# Altium footprint library BEE-DAL_EXP_pcb.PcbLib: 50 footprints (part 2 of 4)
Each footprint in its own frame and in the unit in brackets; x right, y up, seen from the top. Pads: shape width x height; smd on the part's side, far side on the other; paste and mask are expansions set on the pad; w line width, h text height; cw(c..) or ccw(c..) is an arc to the next point about the centre after c.
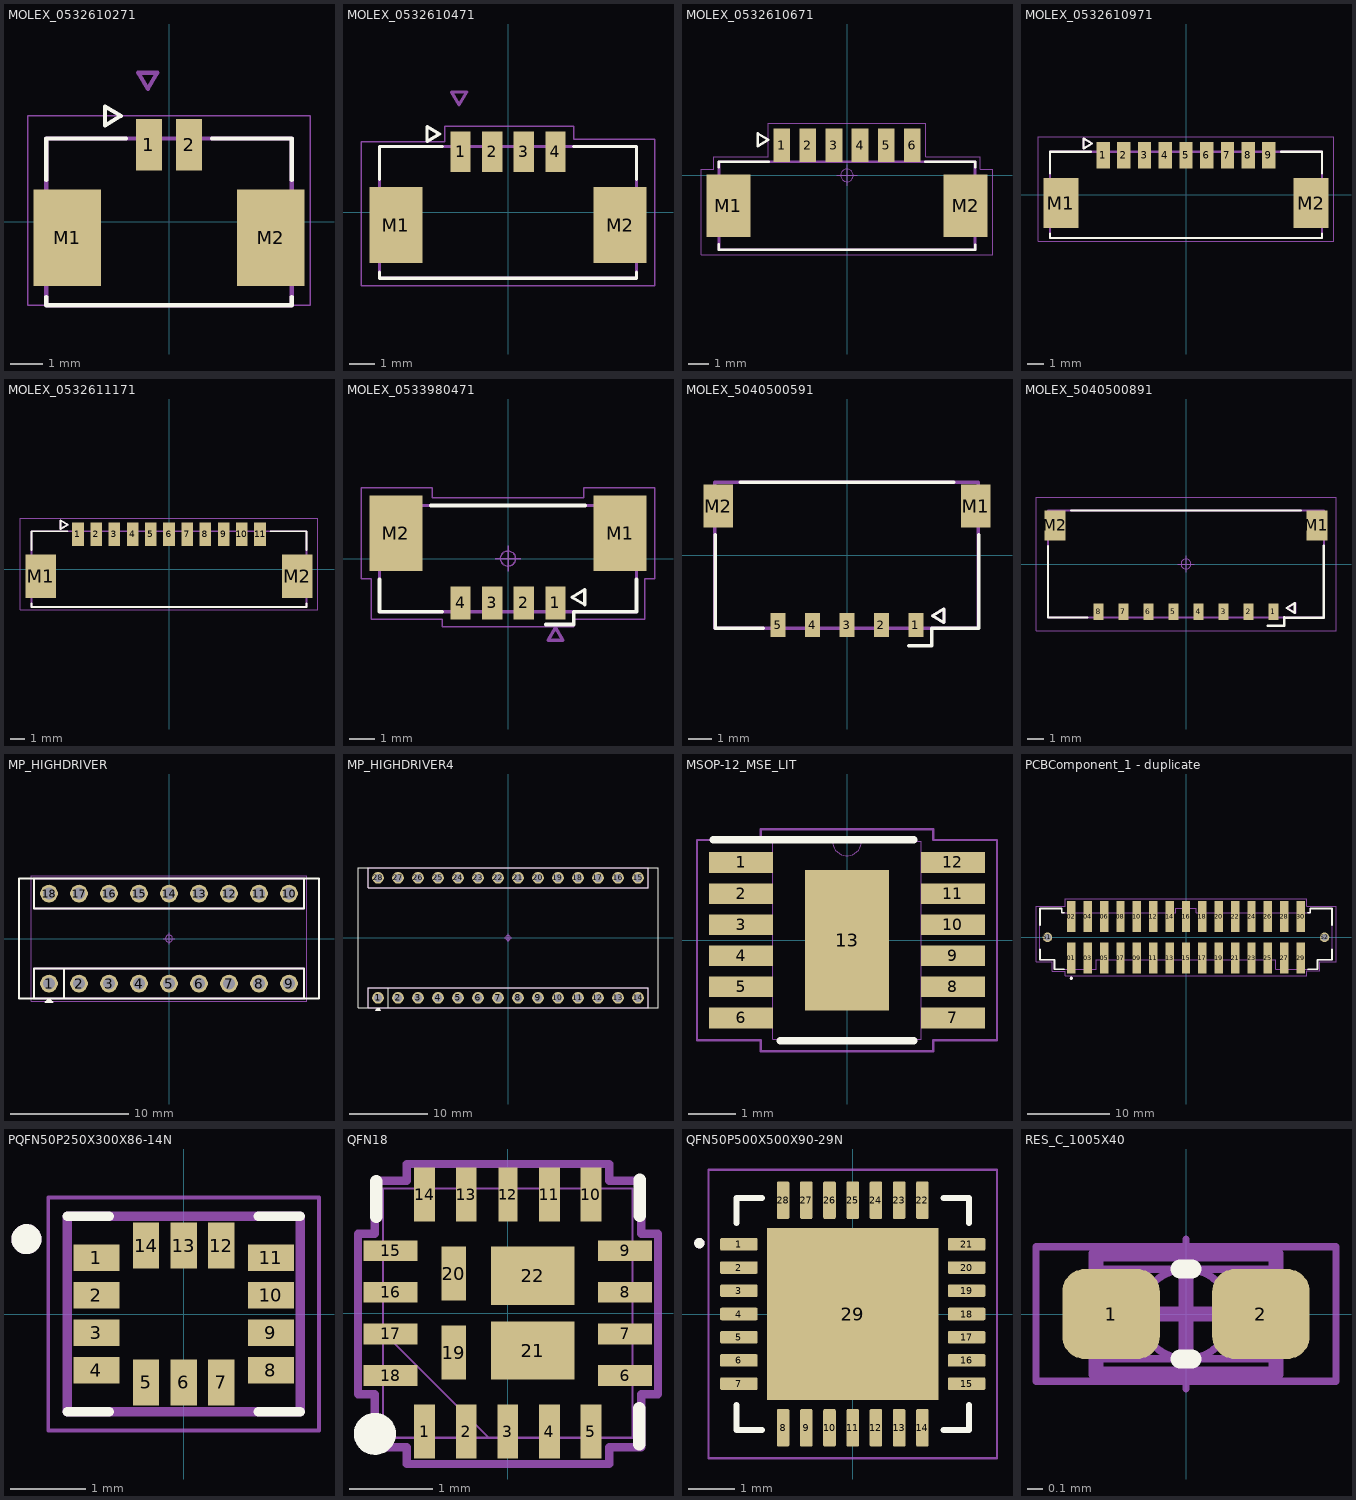
[diagram p1: the footprints below, top view; thin cyan lines are the x and y axes]

## MOLEX_0532610271 [mm]
pads (4):
  rect 0.8x1.6 smd mask+0.076: 1(-0.625,2.4) 2(0.625,2.4)
  rect 2.1x3 smd mask+0.076: M1(-3.175,-0.5) M2(3.175,-0.5)
Top Overlay:
  lines w0.127: -3.825,-2.35 -3.825,-2.6 3.825,-2.6 3.825,-2.35 ; -3.825,1.3 -3.825,2.6 -1.345,2.6 ; 1.345,2.6 3.825,2.6 3.825,1.3 ; -2,3 -2,3.6 -1.5,3.3 -2,3
Mechanical 13:
  lines w0.127: -3.825,-2.6 3.825,-2.6 3.825,2.6 -3.825,2.6 -3.825,-2.6 ; -0.96,4.645 -0.36,4.645 -0.66,4.145 -0.96,4.645
Mechanical 15:
  lines w0.05: -4.4,-2.6 4.4,-2.6 4.4,3.3 -4.4,3.3 -4.4,-2.6
3D body "532610271.STEP": height 3.4, standoff 0, extent -3.825,-2.6 3.825,2.6

## MOLEX_0532610471 [mm]
pads (6):
  rect 0.8x1.6 smd mask+0.076: 1(-1.875,2.4) 2(-0.625,2.4) 3(0.625,2.4) 4(1.875,2.4)
  rect 2.1x3 smd mask+0.076: M1(-4.425,-0.5) M2(4.425,-0.5)
Top Overlay:
  lines w0.127: -5.075,-2.35 -5.075,-2.6 5.075,-2.6 5.075,-2.35 ; -5.075,1.3 -5.075,2.6 -2.595,2.6 ; 2.595,2.6 5.075,2.6 5.075,1.3 ; -3.2,2.8 -3.2,3.4 -2.7,3.1 -3.2,2.8
Top Courtyard:
  lines w0.05: -5.8,-2.9 5.8,-2.9 5.8,-1.4 5.8,1.2 5.8,2.9 2.6,2.9 2.6,3.4 -2.5,3.4 -2.5,2.8 -5.8,2.8 -5.8,-1.7 -5.8,-2.9
Mechanical 13:
  lines w0.127: -5.075,-2.6 5.075,-2.6 5.075,2.6 -5.075,2.6 -5.075,-2.6 ; -2.23,4.752 -1.63,4.752 -1.93,4.252 -2.23,4.752
3D body "532610471.STEP": height 3.4, standoff -0.05, extent -5.075,-2.6 5.075,2.6

## MOLEX_0532610671 [mm]
pads (8):
  rect 0.8x1.6 smd: 1(-3.125,1.45) 2(-1.875,1.45) 3(-0.625,1.45) 4(0.625,1.45) 5(1.875,1.45) 6(3.125,1.45)
  rect 2.1x3 smd: M1(-5.675,-1.45) M2(5.675,-1.45)
Top Overlay:
  lines w0.12: -6.125,-3.3 -6.125,-3.55 6.125,-3.55 6.125,-3.325 ; -6.125,0.4 -6.125,0.65 -3.75,0.65 ; 3.75,0.65 6.125,0.65 6.125,0.4
  lines w0.127: -4.27,1.403 -4.27,2.003 -3.77,1.703 -4.27,1.403
Top Assembly:
  lines w0.127: -6.125,-3.55 6.125,-3.55 6.125,0.65 -6.125,0.65 -6.125,-3.55
  text "'.Designator'" at -3.952,-0.622 h1.5
Top Courtyard:
  lines w0.05: -6.975,-3.8 -6.975,0.3 -6.375,0.3 -6.375,0.9 -3.775,0.9 -3.775,2.5 3.775,2.5 3.775,0.9 6.375,0.9 6.375,0.3 6.975,0.3 6.975,-3.8 -6.975,-3.8
Top Component Center:
  circle w0.05: c0,0 r0.3
  lines w0.05: -0.5,0 0.5,0 ; 0,-0.5 0,0.5
3D body "53261-0671.stp": height 3.4, standoff 0, extent -6.325,-3.429 6.325,1.771

## MOLEX_0532610971 [mm]
pads (11):
  rect 0.8x1.6 smd mask+0.076: 1(-5,2.4) 2(-3.75,2.4) 3(-2.5,2.4) 4(-1.25,2.4) 5(0,2.4) 6(1.25,2.4) 7(2.5,2.4) 8(3.75,2.4) 9(5,2.4)
  rect 2.1x3 smd mask+0.076: M1(-7.55,-0.5) M2(7.55,-0.5)
Top Overlay:
  lines w0.127: -8.2,-2.35 -8.2,-2.6 8.2,-2.6 8.2,-2.35 ; -8.2,1.3 -8.2,2.6 -5.72,2.6 ; 5.72,2.6 8.2,2.6 8.2,1.3 ; -6.175,2.795 -6.175,3.395 -5.675,3.095 -6.175,2.795
Top Courtyard:
  lines w0.05: -8.9,-2.8 8.9,-2.8 8.9,3.5 -8.9,3.5 -8.9,-2.8
Mechanical 13:
  lines w0.127: -8.2,-2.6 8.2,-2.6 8.2,2.6 -8.2,2.6 -8.2,-2.6 ; -6.175,2.795 -6.175,3.395 -5.675,3.095 -6.175,2.795
3D body "532610971.stp": height 3.4, standoff 0, extent -8.2,-2.6 8.2,2.6

## MOLEX_0532611171 [mm]
pads (13):
  rect 0.8x1.6 smd mask+0.076: 1(-6.25,2.4) 2(-5,2.4) 3(-3.75,2.4) 4(-2.5,2.4) 5(-1.25,2.4) 6(0,2.4) 7(1.25,2.4) 8(2.5,2.4) 9(3.75,2.4) 10(5,2.4) 11(6.25,2.4)
  rect 2.1x3 smd mask+0.076: M1(-8.8,-0.5) M2(8.8,-0.5)
Top Overlay:
  lines w0.127: -9.45,-2.35 -9.45,-2.6 9.45,-2.6 9.45,-2.35 ; -9.45,1.3 -9.45,2.6 -6.97,2.6 ; 6.97,2.6 9.45,2.6 9.45,1.3 ; -7.455,2.752 -6.955,3.052 -7.455,3.352 -7.455,2.752
Top Courtyard:
  lines w0.05: -10.2,-2.8 10.2,-2.8 10.2,3.5 -10.2,3.5 -10.2,-2.8
Mechanical 13:
  lines w0.127: -9.45,-2.6 -9.45,2.6 9.45,2.6 9.45,-2.6 -9.45,-2.6 ; -7.455,2.752 -6.955,3.052 -7.455,3.352 -7.455,2.752
3D body "532611171.stp": height 3.4, standoff 0, extent -9.45,-2.6 9.45,2.6

## MOLEX_0533980471 [mm]
pads (6):
  rect 0.8x1.3 smd mask+0.076: 1(1.875,-1.75) 2(0.625,-1.75) 3(-0.625,-1.75) 4(-1.875,-1.75)
  rect 2.1x3 smd mask+0.076: M1(4.425,1) M2(-4.425,1)
Top Overlay:
  lines w0.127: 2.53,-1.525 3.03,-1.225 3.03,-1.825 2.53,-1.525
  lines w0.15: -5.075,-0.82 -5.075,-2.1 -2.595,-2.1 ; -3.055,2.1 3.055,2.1 ; 1.5,-2.6 2.6,-2.6 2.6,-2.1 ; 2.595,-2.1 5.075,-2.1 5.075,-0.82
Top Assembly:
  lines w0.127: -5.075,-2.1 5.075,-2.1 5.075,2.1 -5.075,2.1 -5.075,-2.1 ; 1.575,-3.23 1.875,-2.73 2.175,-3.23 1.575,-3.23
  text "'.Designator'" at -4.217,-0.663 h1.6
Top Courtyard:
  lines w0.05: -5.8,-0.8 -5.8,2.8 -3.4,2.8 -3,2.8 -3,2.4 3,2.4 3,2.8 5.8,2.8 5.8,-0.8 5.4,-0.8 5.4,-2.4 2.6,-2.4 2.6,-2.7 -2.6,-2.7 -2.6,-2.4 -5.4,-2.4 -5.4,-0.8 -5.8,-0.8
Top Component Center:
  circle w0.05: c0,0 r0.3
  lines w0.05: -0.5,0 0.5,0 ; 0,-0.5 0,0.5
3D body "533980471.STEP": height 4.7, standoff 0, extent -5.075,-2.15 5.075,2.05

## MOLEX_5040500591 [mil]
pads (7):
  rect 26x41 smd paste+0 mask+4.02: 1(118.11,-119.76) 2(59.06,-119.76) 3(0,-119.76) 4(-59.06,-119.76) 5(-118.11,-119.76)
  rect 51x73 smd paste+0 mask+4.02: M1(220.67,84.57) M2(-220.67,84.57)
Top Overlay:
  lines w5: 146.77,-103.65 166.46,-115.46 166.46,-91.84 146.77,-103.65
  lines w5.91: 105.63,-154.69 145,-154.69 145,-125
  lines w6: -226,35 -226,-125 -144,-125 ; -183,125 183,125 ; 145,-125 226,-125 226,35
Top Assembly:
  lines w5: 146.56,-103.5 166.25,-115.31 166.25,-91.69 146.56,-103.5
  lines w6: 225.37,124.65 225.37,-125.31 -144.63,-125.31 -226.63,-125.31 -226.63,125 225.37,125 225.37,124.65 ; 225.37,124.65 225.37,124.65
3D body "504050-0591.stp": height 77.95, standoff -0.79, extent -237.2,-127.56 237.2,125.98

## MOLEX_5040500891 [mm]
pads (10):
  rect 0.6x1 smd mask+0.076: 1(5.25,-2.87) 2(3.75,-2.87) 3(2.25,-2.87) 4(0.75,-2.87) 5(-0.75,-2.87) 6(-2.25,-2.87) 7(-3.75,-2.87) 8(-5.25,-2.87)
  rect 1.25x1.8 smd mask+0.076: M1(7.855,2.32) M2(-7.855,2.32)
Top Overlay:
  lines w0.127: -8.275,1.08 -8.275,-3.22 -5.9,-3.22 ; -6.91,3.22 6.91,3.22 ; 6.028,-2.645 6.528,-2.345 6.528,-2.945 6.028,-2.645
  lines w0.15: 4.9,-3.7 5.9,-3.7 5.9,-3.2 ; 5.9,-3.22 8.275,-3.22 8.275,1.08
Top Assembly:
  text "'.Designator'" at -4.217,-0.663 h1.6
Top Courtyard:
  lines w0.05: -9,-4 9,-4 9,4 -9,4 -9,-4
Top Component Center:
  circle w0.05: c0,0 r0.3
  lines w0.05: -0.5,0 0.5,0 ; 0,-0.5 0,0.5
Mechanical 13:
  lines w0.127: -8.275,-3.22 -8.275,3.22 8.275,3.22 8.275,-3.22 -8.275,-3.22 ; 6.07,-2.65 6.57,-2.95 6.57,-2.35 6.07,-2.65
3D body "5040500891.stp": height 2, standoff 0, extent -8.275,-3.2 8.275,3.24

## MP_HIGHDRIVER [mm]
pads (18):
  round 1.5 hole 1 paste-2539.97 mask+0: 1(-10.16,-3.81) 2(-7.62,-3.81) 3(-5.08,-3.81) 4(-2.54,-3.81) 5(0,-3.81) 6(2.54,-3.81) 7(5.08,-3.81) 8(7.62,-3.81) 9(10.16,-3.81) 10(10.16,3.81) 11(7.62,3.81) 12(5.08,3.81) 13(2.54,3.81) 14(0,3.81) 15(-2.54,3.81) 16(-5.08,3.81) 17(-7.62,3.81) 18(-10.16,3.81)
Top Overlay:
  lines w0.15: -11.43,-5.08 -11.43,-2.54 11.43,-2.54 11.43,-5.08 ; -11.43,5.08 -11.43,2.54 11.43,2.54 11.43,5.08 ; -10.26,-5.28 -10.06,-5.28 ; -10.16,-5.28 -10.16,-5.18 ; -8.89,-5.08 -8.89,-2.54 ; -10.46,-5.38 -9.86,-5.38 -10.16,-5.08 -10.46,-5.38
  lines w0.152: -12.7,-5.08 12.7,-5.08 12.7,5.08 -12.7,5.08 -12.7,-5.08
Top Assembly:
  lines w0.15: -10.26,-5.28 -10.06,-5.28 ; -10.16,-5.28 -10.16,-5.18 ; -11.43,-5.08 -11.43,-2.54 11.43,-2.54 11.43,-5.08 -11.43,-5.08 ; -11.43,2.54 11.43,2.54 11.43,5.08 -11.43,5.08 -11.43,2.54 ; -10.46,-5.38 -10.16,-5.08 -9.86,-5.38 -10.46,-5.38
  text "'.Designator'" at -3.952,-0.622 h1.5
Top Courtyard:
  lines w0.015: -11.659,-5.309 11.659,-5.309 11.659,5.309 -11.659,5.309 -11.659,-5.309
Top Component Center:
  circle w0.05: c0,0 r0.3
  lines w0.05: -0.5,0 0.5,0 ; 0,-0.5 0,0.5
3D body "mp-Highdriver 3D model.STEP": height 7.25, standoff -1.64, extent -12.875,-5.15 12.875,5.2

## MP_HIGHDRIVER4 [mm]
pads (28):
  round 1.5 hole 1 paste-2539.97 mask+0: 1(-16.51,-7.62) 2(-13.97,-7.62) 3(-11.43,-7.62) 4(-8.89,-7.62) 5(-6.35,-7.62) 6(-3.81,-7.62) 7(-1.27,-7.62) 8(1.27,-7.62) 9(3.81,-7.62) 10(6.35,-7.62) 11(8.89,-7.62) 12(11.43,-7.62) 13(13.97,-7.62) 14(16.51,-7.62) 15(16.51,7.62) 16(13.97,7.62) 17(11.43,7.62) 18(8.89,7.62) 19(6.35,7.62) 20(3.81,7.62) 21(1.27,7.62) 22(-1.27,7.62) 23(-3.81,7.62) 24(-6.35,7.62) 25(-8.89,7.62) 26(-11.43,7.62) 27(-13.97,7.62) 28(-16.51,7.62)
Top Overlay:
  lines w0.15: -17.78,-8.89 -17.78,-6.35 17.78,-6.35 17.78,-8.89 ; -17.78,8.89 -17.78,6.35 17.78,6.35 17.78,8.89 ; -16.61,-9.09 -16.41,-9.09 ; -16.51,-9.09 -16.51,-8.99 ; -15.24,-8.89 -15.24,-6.35 ; -19.05,-8.89 -19.05,8.89 19.05,8.89 19.05,-8.89 -19.05,-8.89 ; -16.81,-9.19 -16.51,-8.89 -16.21,-9.19 -16.81,-9.19
Top Assembly:
  lines w0.15: -16.61,-9.09 -16.41,-9.09 ; -16.51,-9.09 -16.51,-8.99 ; -17.78,-8.89 -17.78,-6.35 17.78,-6.35 17.78,-8.89 -17.78,-8.89 ; -17.78,6.35 -17.78,8.89 17.78,8.89 17.78,6.35 -17.78,6.35 ; -16.81,-9.19 -16.21,-9.19 -16.51,-8.89 -16.81,-9.19
  text "'.Designator'" at -3.952,-0.622 h1.5
Top Component Center:
  circle w0.05: c0,0 r0.3
  lines w0.05: -0.5,0 0.5,0 ; 0,-0.5 0,0.5
3D body "mp-Highdriver4 3D model.STEP": height 6.04, standoff -6.16, extent -19.1,-8.925 19.1,8.925

## MSOP-12_MSE_LIT [mil]
pads (13):
  rect 52.5x17 smd paste+0 mask+0: 1(-87.25,64) 2(-87.25,38.4) 3(-87.25,12.8) 4(-87.25,-12.8) 5(-87.25,-38.4) 6(-87.25,-64) 7(87.25,-64) 8(87.25,-38.4) 9(87.25,-12.8) 10(87.25,12.8) 11(87.25,38.4) 12(87.25,64)
  rect 69x116 smd paste-3.94 mask+0: 13(0,0)
Top Overlay:
  lines w6: -110.24,82.68 55.12,82.68 ; -55.12,-82.68 55.12,-82.68
Top Paste:
  region: 30.56,54.06 -30.56,54.06 -30.56,3.94 30.56,3.94
  region: 30.56,-3.94 -30.56,-3.94 -30.56,-54.06 30.56,-54.06
Top Courtyard:
  lines w1.97: -123.5,-82.5 -71,-82.5 -71,-91.5 71,-91.5 71,-82.5 123.5,-82.5 123.5,82.5 71,82.5 71,91.5 -71,91.5 -71,82.5 -123.5,82.5 -123.5,-82.5
Mechanical 13:
  lines w1: -12,81.5 ccw(c0,81.5) 12,81.5 ; -99.5,-71.5 -99.5,-56.5 -61,-56.5 -61,-71.5 -99.5,-71.5 ; -99.5,-45.9 -99.5,-30.9 -61,-30.9 -61,-45.9 -99.5,-45.9 ; -99.5,-20.3 -99.5,-5.3 -61,-5.3 -61,-20.3 -99.5,-20.3 ; -99.5,5.3 -99.5,20.3 -61,20.3 -61,5.3 -99.5,5.3 ; -99.5,30.9 -99.5,45.9 -61,45.9 -61,30.9 -99.5,30.9 ; -99.5,56.5 -99.5,71.5 -61,71.5 -61,56.5 -99.5,56.5 ; -61,-81.5 61,-81.5 61,81.5 -61,81.5 -61,-81.5 ; 61,-71.5 61,-56.5 99.5,-56.5 99.5,-71.5 61,-71.5 ; 61,-45.9 61,-30.9 99.5,-30.9 99.5,-45.9 61,-45.9 ; 61,-20.3 61,-5.3 99.5,-5.3 99.5,-20.3 61,-20.3 ; 61,5.3 61,20.3 99.5,20.3 99.5,5.3 61,5.3 ; 61,30.9 61,45.9 99.5,45.9 99.5,30.9 61,30.9 ; 61,56.5 61,71.5 99.5,71.5 99.5,56.5 61,56.5
  text "*" at -58.5,28.5 h50
  text ".Designator" at -137.5,-25 h50
3D body "MSOP-12_MSE_LIT.step": height 43.11, standoff -2.01, extent -99.49,-81.5 99.49,81.5

## PCBComponent_1 - duplicate [mm]
pads (32):
  rect 1.02x3.8 smd: 01(-14,-2.535) 02(-14,2.535) 03(-12,-2.535) 04(-12,2.535) 05(-10,-2.535) 06(-10,2.535) 07(-8,-2.535) 08(-8,2.535) 09(-6,-2.535) 10(-6,2.535) 11(-4,-2.535) 12(-4,2.535) 13(-2,-2.535) 14(-2,2.535) 15(0,-2.535) 16(0,2.535) 17(2,-2.535) 18(2,2.535) 19(4,-2.535) 20(4,2.535) 21(6,-2.535) 22(6,2.535) 23(8,-2.535) 24(8,2.535) 25(10,-2.535) 26(10,2.535) 27(12,-2.535) 28(12,2.535) 29(14,-2.535) 30(14,2.535)
  round 1.163 hole 0.813: S1(-16.925,0) S2(16.925,0)
Top Overlay:
  circle w0.2: c-14,-5 r0.1
  lines w0.2: -17.835,-1.495 -17.835,-2.74 -16.065,-2.74 -16.065,-3.92 -14.86,-3.92 ; -17.835,1.495 -17.835,3.52 -15.175,3.52 -15.175,3.01 -14.86,3.01 ; 14.86,-3.92 16.065,-3.92 16.065,-2.74 17.835,-2.74 17.835,-1.495 ; 14.86,3.01 15.175,3.01 15.175,3.52 17.835,3.52 17.835,1.495
Top Paste:
  circle w1.145: c-16.925,0 r0.573
  circle w1.145: c16.925,0 r0.573
Mechanical 13:
  circle w0.2: c-14,-5 r0.1
  lines w0.1: -17.835,-2.74 -17.835,3.52 -15.175,3.52 -15.175,3.01 -1.27,3.01 -1.27,3.52 1.27,3.52 1.27,3.01 15.175,3.01 15.175,3.52 17.835,3.52 17.835,-2.74 16.065,-2.74 16.065,-3.92 10.985,-3.92 10.985,-2.74 -10.985,-2.74 -10.985,-3.92 -16.065,-3.92 -16.065,-2.74 -17.835,-2.74
Mechanical 15:
  lines w0.05: -18.32,-2.99 -16.315,-2.99 -16.315,-4.17 -14.76,-4.17 -14.76,-4.685 14.76,-4.685 14.76,-4.1 16.315,-4.1 16.315,-2.99 18.32,-2.99 18.32,3.77 14.76,3.77 14.76,4.685 -14.76,4.685 -14.76,3.77 -18.32,3.77 -18.32,-2.99
3D body "T2M-115-01-L-D-SM-WT.stp": height 6.58, standoff -1.62, extent -17.837,-4.314 17.837,4.314

## PQFN50P250X300X86-14N [mm]
pads (14):
  rect 0.61x0.35 smd mask+0: 1(-1.16,0.75) 2(-1.16,0.25) 3(-1.16,-0.25) 4(-1.16,-0.75) 8(1.16,-0.75) 9(1.16,-0.25) 10(1.16,0.25) 11(1.16,0.75)
  rect 0.35x0.61 smd mask+0: 5(-0.5,-0.91) 6(0,-0.91) 7(0.5,-0.91) 12(0.5,0.91) 13(0,0.91) 14(-0.5,0.91)
Top Overlay:
  circle w0.2: c-2.09,0.995 r0.1
  lines w0.127: -1.55,-1.3 -0.99,-1.3 ; -1.55,1.3 -0.99,1.3 ; 0.99,-1.3 1.55,-1.3 ; 0.99,1.3 1.55,1.3
Top Assembly:
  lines w0.127: -1.55,-1.3 -1.55,1.3 1.55,1.3 1.55,-1.3 -1.55,-1.3
Top Courtyard:
  lines w0.05: -1.8,-1.55 -1.8,1.55 1.8,1.55 1.8,-1.55 -1.8,-1.55
Mechanical 13:
  circle w0.2: c-2.09,0.995 r0.1
3D body "step_temp.STEP": height 0.86, standoff 0, extent -1.5,-1.25 1.5,1.25

## QFN18 [mm]
pads (22):
  rect 0.25x0.65 smd paste+0 mask+0.05: 1(-1,-1.425) 2(-0.5,-1.425) 3(0,-1.425) 4(0.5,-1.425) 5(1,-1.425) 10(1,1.425) 11(0.5,1.425) 13(-0.5,1.425) 14(-1,1.425)
  rect 0.65x0.25 smd paste+0 mask+0.05: 6(1.41,-0.75) 7(1.41,-0.25) 8(1.41,0.25) 9(1.41,0.75) 15(-1.41,0.75) 16(-1.41,0.25) 17(-1.41,-0.25) 18(-1.41,-0.75)
  rect 0.229x0.65 smd paste+0 mask+0.05: 12(0,1.425)
  rect 0.3x0.65 smd paste+0 mask+0.05: 19(-0.65,-0.475) 20(-0.65,0.475)
  rect 1x0.7 smd paste+0 mask+0: 21(0.3,-0.45) 22(0.3,0.45)
Top Overlay:
  circle w0.254: c-1.598,-1.451 r0.126
  lines w0.152: -1.582,1.158 -1.582,1.587 ; 1.581,-1.574 1.581,-1.145 ; 1.585,1.172 1.585,1.601
Top Courtyard:
  lines w0.1: -1.801,-0.976 -1.598,-0.976 -1.598,-1.611 -1.214,-1.611 -1.214,-1.814 1.218,-1.814 1.218,-1.611 1.602,-1.611 1.602,-0.976 1.806,-0.976 1.806,0.955 1.602,0.955 1.602,1.59 1.218,1.59 1.218,1.793 -1.214,1.793 -1.214,1.59 -1.598,1.59 -1.598,0.955 -1.801,0.955 -1.801,-0.976
Top 3D Body:
  lines w0.025: -1.499,-0.229 -0.229,-1.499 ; -1.499,-1.499 1.499,-1.499 1.499,1.499 -1.499,1.499 -1.499,-1.499 ; -1.499,-0.89 -1.499,-0.61 -1.499,-0.89 ; -1.499,-0.39 -1.499,-0.11 -1.499,-0.39 ; -1.499,0.11 -1.499,0.39 -1.499,0.11 ; -1.499,0.61 -1.499,0.89 -1.499,0.61 ; -1.14,-1.499 -0.86,-1.499 -1.14,-1.499 ; -1.14,1.499 -0.86,1.499 -1.14,1.499 ; -0.64,-1.499 -0.36,-1.499 -0.64,-1.499 ; -0.64,1.499 -0.36,1.499 -0.64,1.499 ; -0.14,-1.499 0.14,-1.499 -0.14,-1.499 ; -0.14,1.499 0.14,1.499 -0.14,1.499 ; 0.36,-1.499 0.64,-1.499 0.36,-1.499 ; 0.36,1.499 0.64,1.499 0.36,1.499 ; 0.86,-1.499 1.14,-1.499 0.86,-1.499 ; 0.86,1.499 1.14,1.499 0.86,1.499 ; 1.499,-0.89 1.499,-0.61 1.499,-0.89 ; 1.499,-0.39 1.499,-0.11 1.499,-0.39 ; 1.499,0.11 1.499,0.39 1.499,0.11 ; 1.499,0.61 1.499,0.89 1.499,0.61
3D body: height 0.25, standoff 0, extent 0,0 0.254,0.254
3D body "LQFN18_3X3X095_ADI.step": height 1.04, standoff 0, extent -1.499,-1.499 1.499,1.499

## QFN50P500X500X90-29N [mm]
height 0.9
pads (29):
  rrect25% 0.81x0.27 smd mask+0.05: 1(-2.45,1.5) 2(-2.45,1) 3(-2.45,0.5) 4(-2.45,0) 5(-2.45,-0.5) 6(-2.45,-1) 7(-2.45,-1.5) 15(2.45,-1.5) 16(2.45,-1) 17(2.45,-0.5) 18(2.45,0) 19(2.45,0.5) 20(2.45,1) 21(2.45,1.5)
  rrect25% 0.27x0.81 smd mask+0.05: 8(-1.5,-2.45) 9(-1,-2.45) 10(-0.5,-2.45) 11(0,-2.45) 12(0.5,-2.45) 13(1,-2.45) 14(1.5,-2.45) 22(1.5,2.45) 23(1,2.45) 24(0.5,2.45) 25(0,2.45) 26(-0.5,2.45) 27(-1,2.45) 28(-1.5,2.45)
  rect 3.7x3.7 smd paste-0.68 mask+0.05: 29(0,0)
Top Overlay:
  circle w0.12: c-3.302,1.524 r0.05
  lines w0.127: -2.5,-1.955 -2.5,-2.5 -1.955,-2.5 ; -2.5,1.955 -2.5,2.5 -1.955,2.5 ; 1.955,-2.5 2.5,-2.5 2.5,-1.955 ; 1.955,2.5 2.5,2.5 2.5,1.955
Mechanical 13:
  circle w0.12: c-3.302,1.524 r0.05
Mechanical 15:
  lines w0.05: -3.105,-3.105 3.105,-3.105 3.105,3.105 -3.105,3.105 -3.105,-3.105
3D body "TMC2209-LA-T.stp": height 0.9, standoff 0, extent -2.55,-2.55 2.55,2.55

## RES_C_1005X40 [mm]
pads (2):
  rrect50% 0.65x0.6 smd mask+0.05: 1(-0.5,0) 2(0.5,0)
Top Overlay:
  lines w0.125: -0.04,-0.3 0.04,-0.3 ; -0.04,0.3 0.04,0.3
Top Assembly:
  lines w0.1: -0.6,-0.4 0.6,-0.4 0.6,0.4 -0.6,0.4 -0.6,-0.4
  text "'.Designator'" at -4.433,-0.827 h1.6
Top Courtyard:
  lines w0.05: -1,-0.45 -1,0.45 1,0.45 1,-0.45 -0.575,-0.45 -1,-0.45
  lines w0.1: -0.25,0 0.25,0 ; 0,-0.25 0,0.25
Top Component Outline:
  rectangle: -0.556,-0.3 -0.256,0.3
  rectangle: 0.244,-0.3 0.544,0.3
  lines w0.05: -0.55,-0.3 0.55,-0.3 0.55,0.3 -0.55,0.3 -0.55,-0.3
Top Component Center:
  circle w0.05: c0,0 r0.3
  lines w0.05: -0.5,0 0.5,0 ; 0,-0.5 0,0.5
3D body "RES_0402.step": height 0.2, standoff 0, extent -0.5,-0.3 0.5,0.3